# Altium footprint library 66200411022.PcbLib: 1 footprints
Each footprint in its own frame and in the unit in brackets; x right, y up, seen from the top. Pads: shape width x height; smd on the part's side, far side on the other; paste and mask are expansions set on the pad; w line width, h text height; cw(c..) or ccw(c..) is an arc to the next point about the centre after c.
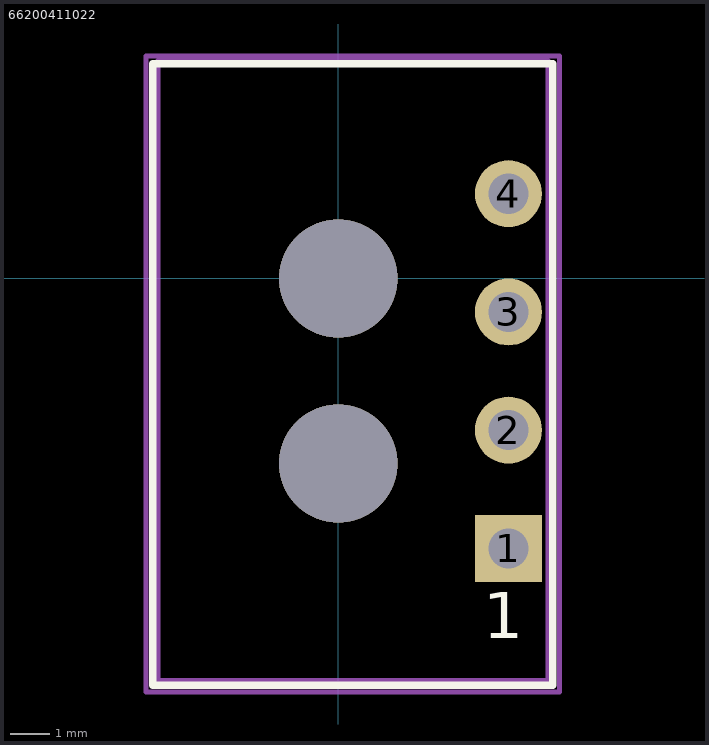
[diagram p0: the footprint, top view; thin cyan lines are the x and y axes]

## 66200411022 [mm] "Molex Micro-Fit 3.0 1x4"
pads (4):
  rect 1.7x1.7 hole 1.02: 1(4.32,-6.85)
  round 1.7 hole 1.02: 2(4.32,-3.85) 3(4.32,-0.85) 4(4.32,2.15)
via 0,-4.7 diameter 3 hole 3
via 0,0 diameter 3 hole 3
Top Overlay:
  lines w0.2: -4.705,-10.325 5.445,-10.325 5.445,5.45 -4.705,5.45 -4.705,-10.325
  text "1" at 3.683,-9.516 h2
Assembly Top:
  lines w0.127: -4.57,-10.2 -4.57,5.525 5.33,5.525 5.33,-10.2 -4.57,-10.2
Courtyard Top:
  lines w0.127: -4.88,-10.5 -4.88,5.65 5.62,5.65 5.62,-10.5 -4.88,-10.5
3D body "66200411022.stp": height 5.6, standoff -3.16, extent -4.6,-10.175 5.3,5.475